# EAGLE library part WP914CK/4 (library LED)
Kingbright 2x3mm QUAD-LEVEL LED INDICATOR
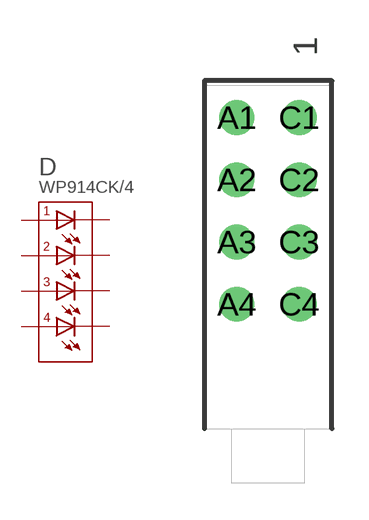
[diagram p0: symbol with the pads of QUAD_2X3MM; footprint QUAD_2X3MM]

Designator prefix D

## WP914CK/4GDT (COLOR: Green; DATASHEET: https://goo.gl/tqWGbT; DESC: LED IND 2X3MM QUAD RA GRN DIFF; MANF: Kingbright; MFPN: WP914CK/4GDT; PARTNO: 17-100076-00; VF: 2.2V), WP914CK/4IDT (COLOR: Red; DESC: LED IND 2X3MM QUAD RA RED DIFF; MANF: Kingbright; MFPN: WP914CK/4IDT; VF: 2V), WP914CK/4YDT (COLOR: Yellow; DESC: LED IND 2X3MM QUAD RA YLW DIFF; MANF: Kingbright; MFPN: WP914CK/4YDT; VF: 2.1V)  [QUAD_2X3MM]
A1  A1  pas
A2  A2  pas
A3  A3  pas
A4  A4  pas
C1  C1  pas
C2  C2  pas
C3  C3  pas
C4  C4  pas

## Footprint QUAD_2X3MM (pad centres in mm)
Kingbright 2x3mm Quad-Level LED Indicator. 0.1" pitch Datasheet <http://www.kingbrightusa.com/images/catalog/SPEC/WP914CK-4GDT.pdf>
drill 0.914: A1 -1.27,12.7; A2 -1.27,10.16; A3 -1.27,7.62; A4 -1.27,5.08; C1 1.27,12.7; C2 1.27,10.16; C3 1.27,7.62; C4 1.27,5.08